# Altium schematic symbol library PBS-3.SchLib: 1 symbol
Pins are listed as number, name and electrical type; pins without a type are passive.

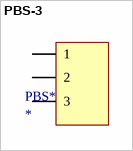
[diagram p0: symbol PBS-3]

## PBS-3
designator PBS*
footprint PBS-3
pins: 1, 2, 3